# Altium schematic symbol library Project X_1.SCHLIB: 8 symbols
Pins are listed as number, name and electrical type; pins without a type are passive.

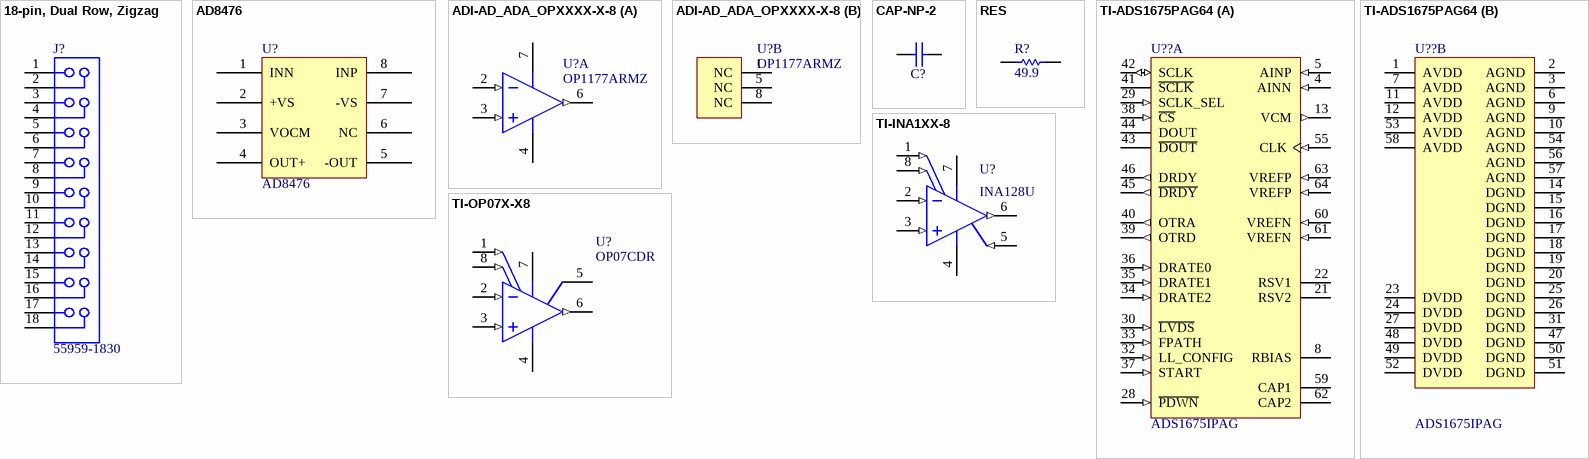
[diagram p0: symbols 18-pin, Dual Row, Zigzag to TI-OP07X-X8]

## 18-pin, Dual Row, Zigzag
designator J?, comment 55959-1830
CONN, MicroClasp, TH, R/A, 18-pin, Dual Row, 0.079" (2.00mm); Mfr: Molex; Equiv. Accepted: No; Pitch: 2.0mm; Rows: 2; R/A or Vert: R/A; Pins: 18; Mount: TH; Mfr P/N: 55959-1830; RoHS: Yes
footprint 55959-1830 (Connector, MicroClasp, 18-Leads, R/A, Pitch 2 mm, Through Hole)
pins: 1, 2, 3, 4, 5, 6, 7, 8, 9, 10, 11, 12, 13, 14, 15, 16, 17, 18

## AD8476
designator U?
footprint MSOP8
pins: 1 INN, 2 +VS, 3 VOCM, 4 OUT+, 5 -OUT, 6 NC, 7 -VS, 8 INP

## ADI-AD_ADA_OPXXXX-X-8
designator U?, comment OP1177ARMZ
Single Channel Wide Bandwidth Operational Amplifier, 1.3 MHz BW, 700 mV/us SR, Industrial, 8-pin SOP (RM-8), Tube; Generic Part Number: OP1177; Manufacturer: Analog Devices; Input Bias Current: 500pA; Amplifiers Per Package: 1; Input Offset Voltage: 15uV; V Span Max: 36V; V Span Min: 5V; Small Signal Bandwidth: 1.3MHz; Iq/Amp: 500uA; ComponentLink1URL: http://www.analog.com/en/index.html; PartNumber: OP1177ARMZ; ComponentLink4URL: http://www.analog.com/en/all-operational-amplifiers-op-amps/operational-amplifiers-op-amps/op1177/products/product.html#product-recommendations; RevisionNote: Reference Circuit URL fixed; Slew Rate: 700mV/us; ComponentLink3Description: Package Specification; Mounting Technology: Surface Mount; ComponentLink1Description: Manufacturer URL; DatasheetVersion: Rev. G; ComponentLink2Description: Datasheet; ComponentLink4Description: Reference Circuit; ComponentLink3URL: http://www.analog.com/static/imported-files/packages/PKG_PDF/MSOP%28RM%29/RM_8.pdf; PackageDescription: 8-Pin Mini Small Outline Package, Body 3 x 3 mm, Pitch 0.65 mm; Code_JEDEC: MO-187-AA; ComponentLink2URL: http://www.analog.com/static/imported-files/data_sheets/OP1177_2177_4177.pdf; PackageReference: RM-8
footprint ADI-RM-8_M (SOP, 8-Leads, Body 3x3mm, Pitch 0.65mm, IPC Low Density)
footprint ADI-RM-8_L (SOP, 8-Leads, Body 3x3mm, Pitch 0.65mm, IPC High Density)
footprint ADI-RM-8_N (SOP, 8-Leads, Body 3x3mm, Pitch 0.65mm, IPC Medium Density)
part A pins: 2 -IN (in), 3 +IN (in), 4 -V (power), 6 OUT (out), 7 +V (power)
part B pins: 1 NC, 5 NC, 8 NC

## CAP-NP-2
designator C?, comment C1608X5R1A106K080AC  (value not drawn)
Chip Capacitor, 10 uF, +/- 10%, 10 V, -55 to 85 degC, 0603 (1608 Metric), RoHS, Tape and Reel; PCN Part Number: MLCCPartNumberChange30/Nov/2012; Manufacturer: TDK; Temperature Coefficient: X5R; Product Training Modules: CSeriesGeneralApplicationsSEAT,CCV,andTVCLDesignToolsGuidetoReplacinganElectrolyticCapacitorwithanMLCC; Online Catalog: CSeries,GeneralPurpose; Voltage - Rated: 10V; Other Names: 445-7486-1; Capacitance: 10µF; Design Resources: 20WNon-IsolatedBuckLEDDriverUsingPLLNK460KG; Kits: 445-9003-KIT-ND-KITCAPCERHICAPMLCCSMD; Height - Seated (Max): -; Family: CeramicCapacitors; Package Description: 2-Pin Surface Mount Device, Body 1.6 x 0.8 mm; Category: Capacitors; Datasheet Version: Mar-15; RoHS Information: RoHSCertificate-MLCC; Thickness (Max): 0.035"(0.90mm); Operating Temperature: -55degC~85degC; Package Reference: 603; Series: C; Applications: GeneralPurpose; Datasheet URL: http://download.siliconexpert.com/pdfs/2015/4/21/15/54/45/779/tdk_/manual/37024850441143360mlcc_commercial_general_en.pdf; Features: -; Lead Style: -; Lead Spacing: -; Ratings: -; Size / Dimension: 0.063"Lx0.031"W(1.60mmx0.80mm); Tolerance: ±10%; Mounting Type: SurfaceMount,MLCC; Standard Package: 1; Package / Case: 0603(1608Metric); Manufacturer URL: http://www.tdk.com/; Packaging: CutTape(CT)
footprint CAPC1608X90X20ML10 (Chip Capacitor, 2-Leads, Body 1.70x0.90mm, IPC Low Density)
footprint CAPC1608X90X20NL10 (Chip Capacitor, 2-Leads, Body 1.70x0.90mm, IPC Medium Density)
footprint CAPC1608X90X20LL10
pins: 1, 2

## RES
designator R?, comment 49.9
Part Number: RR0816P-241-D; Manufacturer: Susumu
footprint RESC1608X50X30LL20T20 (Chip Resistor, 2-Leads, Body 1.60x0.80mm, IPC High Density)
footprint RESC1608X50X30ML20T20 (Chip Resistor, 2-Leads, Body 1.60x0.80mm, IPC Low Density)
footprint RESC1608X50X30NL20T20 (Chip Resistor, 2-Leads, Body 1.60x0.80mm, IPC Medium Density)
pins: 1, 2
1 alternate drawing of the same symbol

## TI-ADS1675PAG64
designator U??, comment ADS1675IPAG
4 MSPS, 24-Bit ADC, -40 to 85 degC, 64-pin QFP (PAG64), Green (RoHS & no Sb/Br); Manufacturer: Texas Instruments; Analog Voltage AV/DD(Min)(V): 4.75; Analog Voltage AV/DD(Max)(V): 5.25; SFDR(dB): 120; Resolution(Bits): 24; # Input Channels: 1; SubFamily: Precision ADC (<=10MSPS); Architecture: Delta-Sigma; SNR(dB): 92; Digital Supply(Min)(V): 2.85; Sample Rate (max)(SPS): 4M; Digital Supply(Max)(V): 3.15; Interface: Parallel LVDS, Serial SPI; Eco-Plan: Green (RoHS & no Sb/Br); ComponentLink3URL: http://www.ti.com/lit/ml/mtqf006a/mtqf006a.pdf; PackageDescription: 64-Pin Plastic Flat Pack, Body 10 x 10 mm, Pitch 0.50 mm; PackageVersion: 4040282/C, 11/1996; Mounting Technology: Surface Mount; ComponentLink1URL: http://www.ti.com/; ComponentLink2URL: http://www.ti.com/general/docs/lit/getliterature.tsp?genericPartNumber=ADS1675&fileType=pdf; PartNumber: ADS1675IPAG; ComponentLink2Description: Datasheet; ComponentLink3Description: Package Specification; PackageReference: PAG64; ComponentLink1Description: Manufacturer URL; Code_JEDEC: MS-026; DatasheetVersion: SBAS416D
footprint TI-PAG64_L (QFP, 64-Leads, Body 10x10mm, Pitch 0.5mm, IPC High Density)
footprint TI-PAG64_N (QFP, 64-Leads, Body 10x10mm, Pitch 0.5mm, IPC Medium Density)
footprint TI-PAG64_M (QFP, 64-Leads, Body 10x10mm, Pitch 0.5mm, IPC Low Density)
part A pins: 4 AINN (in) "Negative analog input", 5 AINP (in) "Positive analog input", 8 RBIAS "Analog bias setting resistor", 13 VCM (out) "Terminal for external bypass capacitor connection to internal common-mode voltage", 21 RSV2 "Short pin to digital ground", 22 RSV1 "Short pin to digital supply", 28 ~{PDWN} (in) "Power-down control, active low", 29 SCLK_SEL (in) "Shift-clock source select. If SCLK_SEL = '0', then SCLK is internally generated. If SCLK_SEL = '1', then SCLK must be externally generated.", 30 ~{LVDS} (in) "Serial interface select. If L\V\D\S\ = '0', then interface is LVDS-compatible. If L\V\D\S\ = '1', then interface is CMOS-compatible.", 32 LL_CONFIG (in) "Configure Low-Latency digital filter. If LL_CONFIG = '0', then single-cycle settling is selected. If LL_CONFIG = '1', then fast-response is selected.", 33 FPATH (in) "Digital filter path selection. If FPATH = '0', then path is Wide Bandwidth. If FPATH = '1', then path is Low-Latency.", 34 DRATE2 (in) "Data rate selection", 35 DRATE1 (in) "Data rate selection", 36 DRATE0 (in) "Data rate selection", 37 START (in) "Start convert, reset, and synchronization control input", 38 ~{CS} (in) "Chip select; active low", 39 OTRD (out) "Digital filter out-of-range indicator", 40 OTRA (out) "Analog input out-of-range indicator", 41 ~{SCLK} (hiz) "Negative shift clock output. If SCLK_SEL = '0', then S\C\L\K\ is the complementary shift clock output. If SCLK_SEL = '1', then S\C\L\K\ always output is 3-state.", 42 SCLK (io) "Positive shift clock output. If SCLK_SEL = '0', then SCLK is an output. If SCLK_SEL = '1', then SCLK is an input.", 43 ~{DOUT} (hiz) "Negative LVDS serial data output", 44 DOUT (hiz) "Positive LVDS serial data output", 45 ~{DRDY} (out) "Negative data ready output", 46 DRDY (out) "Positive data ready output", 55 CLK (in) "Master clock input", 59 CAP1 "Terminal for 1uF external bypass capacitor", 60 VREFN (in) "Negative reference voltage. Short to analog ground", 61 VREFN (in) "Negative reference voltage. Short to analog ground", 62 CAP2 "Terminal for 1uF external bypass capacitor", 63 VREFP (in) "Positive reference voltage", 64 VREFP (in) "Positive reference voltage"
part B pins: 1 AVDD (power) "Analog supply", 2 AGND (power) "Analog ground", 3 AGND (power) "Analog ground", 6 AGND (power) "Analog ground", 7 AVDD (power) "Analog supply", 9 AGND (power) "Analog ground", 10 AGND (power) "Analog ground", 11 AVDD (power) "Analog supply", 12 AVDD (power) "Analog supply", 14 DGND (power) "Digital ground", 15 DGND (power) "Digital ground", 16 DGND (power) "Digital ground", 17 DGND (power) "Digital ground", 18 DGND (power) "Digital ground", 19 DGND (power) "Digital ground", 20 DGND (power) "Digital ground", 23 DVDD (power) "Digital supply", 24 DVDD (power) "Digital supply", 25 DGND (power) "Digital ground", 26 DGND (power) "Digital ground", 27 DVDD (power) "Digital supply", 31 DGND (power) "Digital ground", 47 DGND (power) "Digital ground", 48 DVDD (power) "Digital supply", 49 DVDD (power) "Digital supply", 50 DGND (power) "Digital ground", 51 DGND (power) "Digital ground", 52 DVDD (power) "Digital supply", 53 AVDD (power) "Analog supply", 54 AGND (power) "Analog ground", 56 AGND (power) "Analog ground", 57 AGND (power) "Analog ground", 58 AVDD (power) "Analog supply"

## TI-INA1XX-8
designator U?, comment INA128U
Precision, Low Power Instrumentation Amplifier, -40 to 85 degC, 8-pin SOIC (D8), Green (RoHS & no Sb/Br); Manufacturer: Texas Instruments; Gain(V/V): 1 to 10000; Noise at 1kHz(Typ)(nV/rt(Hz)): 8; Number of Channels: 1; Vs(Max)(V): 36; Vs(Min)(V): 4.5; Input Offset (+/-)(Max)(uV): 50; Input Bias Current (+/-)(Max)(nA): 5; Non-Linearity (+/-)(Max)(%): 0.002; CMRR(Min)(dB): 120; Input Offset Drift (+/-)(Max)(uV/Degrees Celsius): 0.5; SubFamily: Dual Supply; Quiescent Current (+/-)(Typ)(mA): 0.7; ComponentLink1URL: http://www.ti.com/; PackageVersion: 4040047-3/M, 06/2011; PackageDescription: 8-Pin Plastic Small Outline, Body 4.9 x 3.9 mm, Pitch 1.27 mm; Mounting Technology: Surface Mount; ComponentLink3URL: http://www.ti.com/litv/pdf/msoi002j; ComponentLink3Description: Package Specification; PackageReference: D0008A; PartNumber: INA128U; Code_JEDEC: MS-012; ComponentLink2Description: Datasheet; Eco-Plan: Green (RoHS & no Sb/Br); DatasheetVersion: SBOS051B; ComponentLink2URL: http://www.ti.com/general/docs/lit/getliterature.tsp?genericPartNumber=INA128&fileType=pdf; ComponentLink1Description: Manufacturer URL
footprint D0008A_L (SOIC, 8-Leads, Body 5x4mm, Pitch 1.27mm, IPC High Density)
footprint D0008A_N (SOIC, 8-Leads, Body 5x4mm, Pitch 1.27mm, IPC Medium Density)
footprint D0008A_M (SOIC, 8-Leads, Body 5x4mm, Pitch 1.27mm, IPC Low Density)
pins: 1 RG (in), 2 VIN- (in), 3 VIN+ (in), 4 V- (power), 5 REF (in), 6 VO (out), 7 V+ (power), 8 RG (in)

## TI-OP07X-X8
designator U?, comment OP07CDR
Low-Offset Voltage Operational Amplifier, 6 to 36 V, 0 to 70 degC, 8-pin SOIC (D8), Green (RoHS & no Sb/Br); Manufacturer: Texas Instruments; Iq per channel(Max)(mA): 5; Total Supply Voltage(Min)(+5V is 5, +/-5V is 10): 6; IIB(Max)(pA): 7000; GBW(Typ)(MHz): 0.6; Vio (25C)(Max)(mV): 0.15; Sub Family: General Purpose Amplifier, High Supply Voltage Amplifier (>=30V), Low Noise Amp (<=10nV/rtHz), Low Offset Voltage Amplifier (<=500uV); Slew Rate(Typ)(V/us): 0.3; Number of Channels: 1; Vn at 1kHz(Typ)(nV/rtHz): 9.8; Offset Drift(Typ)(uV/C): 0.5; Rating: Catalog; CMRR(Min)(dB): 100; Total Supply Voltage(Max)(+5V is 5, +/-5V is 10): 36; PackageReference: D0008A; ComponentLink2Description: Datasheet; PartNumber: OP07CDR; Eco-Plan: Green (RoHS & no Sb/Br); DatasheetVersion: SLOS099E; ComponentLink2URL: http://www.ti.com/lit/ds/symlink/op07c.pdf; PackageDescription: 8-Pin Plastic Small Outline, Body 4.9 x 3.9 mm, Pitch 1.27 mm; ComponentLink1Description: Manufacturer URL; PackageVersion: 4040047-3/M, 06/2011; Code_JEDEC: MS-012; ComponentLink3URL: http://www.ti.com/litv/pdf/msoi002j; Mounting Technology: Surface Mount; ComponentLink3Description: Package Specification; ComponentLink1URL: http://www.ti.com/
footprint D0008A_M (SOIC, 8-Leads, Body 5x4mm, Pitch 1.27mm, IPC Low Density)
footprint D0008A_L (SOIC, 8-Leads, Body 5x4mm, Pitch 1.27mm, IPC High Density)
footprint D0008A_N (SOIC, 8-Leads, Body 5x4mm, Pitch 1.27mm, IPC Medium Density)
pins: 1 OFFSET N1 (in), 2 IN- (in), 3 IN+ (in), 4 VCC- (power), 5 NC, 6 OUT (out), 7 VCC+ (power), 8 OFFSET N2 (in)